# EAGLE library part CY7C65211 (library Cypress)
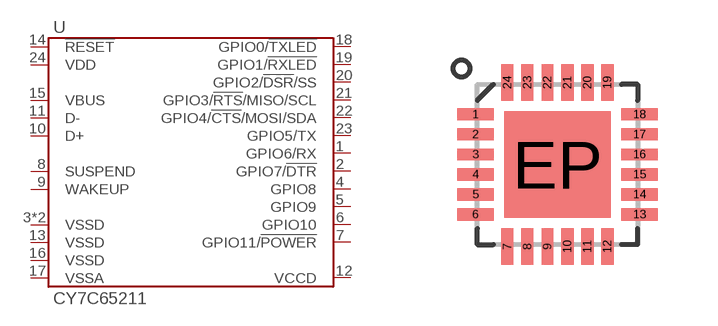
[diagram p0: symbol with the pads of QFN-24; footprint QFN-24]

Designator prefix U

## CY7C65211  [QFN-24]
1  GPIO6/RX
2  GPIO7/!DTR
3  VSSD
4  GPIO8
5  GPIO9
6  GPIO10
7  GPIO11/!POWER
8  SUSPEND
9  WAKEUP
10  D+
11  D-
12  VCCD
13  VSSD
14  !RESET
15  VBUS
16  VSSD
17  VSSA
18  GPIO0/!TXLED
19  GPIO1/!RXLED
20  GPIO2/!DSR!/SS
21  GPIO3/!RTS!/MISO/SCL
22  GPIO4/!CTS!/MOSI/SDA
23  GPIO5/TX
24  VDD
EP  VSSD

## Footprint QFN-24 (pad centres in mm)
smd 0.9 x 0.3: 1 -2.05,1.25; 2 -2.05,0.75; 3 -2.05,0.25; 4 -2.05,-0.25; 5 -2.05,-0.75; 6 -2.05,-1.25; 13 2.05,-1.25; 14 2.05,-0.75; 15 2.05,-0.25; 16 2.05,0.25; 17 2.05,0.75; 18 2.05,1.25
smd 0.3 x 0.9: 7 -1.25,-2.05; 8 -0.75,-2.05; 9 -0.25,-2.05; 10 0.25,-2.05; 11 0.75,-2.05; 12 1.25,-2.05; 19 1.25,2.05; 20 0.75,2.05; 21 0.25,2.05; 22 -0.25,2.05; 23 -0.75,2.05; 24 -1.25,2.05
smd 2.65 x 2.65: EP 0,0